# EAGLE library part E22-900M22S (library E22-900M22S)
Check availability <https://pricing.snapeda.com/parts/E22-900M22S/EBYTE/view-part?ref=eda>
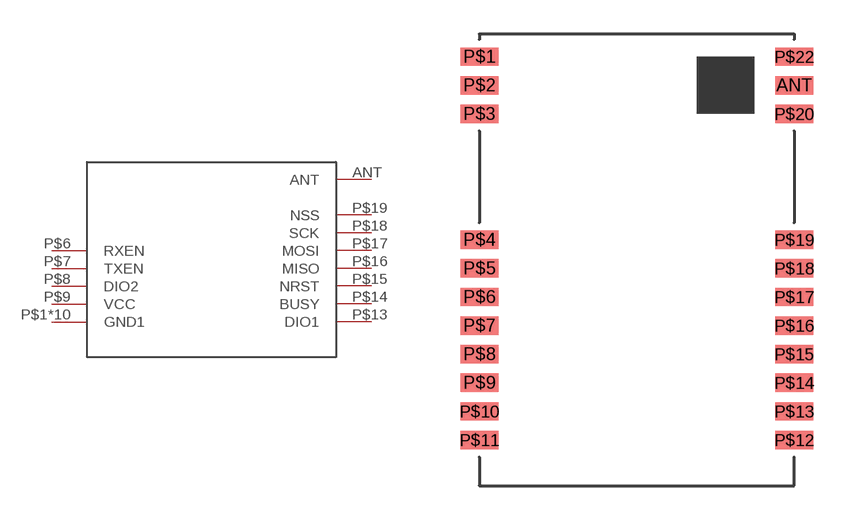
[diagram p0: symbol with the pads of E22-900M22S; footprint E22-900M22S]

Designator prefix -

## E22-900M22S (Availability: In Stock; Description: SX1262 868/915MHz SPI SMD LoRa Module; MF: EBYTE; MP: E22-900M22S; Package: Package; Price: None)  [E22-900M22S]
ANT  ANT
P$1  GND1
P$2  GND1
P$3  GND1
P$4  GND1
P$5  GND1
P$6  RXEN
P$7  TXEN
P$8  DIO2
P$9  VCC
P$10  GND1
P$11  GND1
P$12  GND1
P$13  DIO1
P$14  BUSY
P$15  NRST
P$16  MISO
P$17  MOSI
P$18  SCK
P$19  NSS
P$20  GND1
P$22  GND1

## Footprint E22-900M22S (pad centres in mm)
smd 1.676 x 0.813: ANT 13.97,-1.27; P$1 0,0; P$2 0,-1.27; P$3 0,-2.54; P$4 0,-8.128; P$5 0,-9.398; P$6 0,-10.668; P$7 0,-11.938; P$8 0,-13.208; P$9 0,-14.478; P$10 0,-15.748; P$11 0,-17.018; P$12 13.97,-17.018; P$13 13.97,-15.748; P$14 13.97,-14.478; P$15 13.97,-13.208; P$16 13.97,-11.938; P$17 13.97,-10.668; P$18 13.97,-9.398; P$19 13.97,-8.128; P$20 13.97,-2.54; P$22 13.97,0